# Altium schematic symbol library Terminal Block 2.SchLib: 1 symbol
Pins are listed as number, name and electrical type; pins without a type are passive.

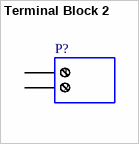
[diagram p0: symbol Terminal Block 2]

## Terminal Block 2
designator P?
Screw terminal block, 2-Way
pins: 1, 2